# Altium footprint library RINALDOPCBLIB.PcbLib: 3 footprints
Each footprint in its own frame and in the unit in brackets; x right, y up, seen from the top. Pads: shape width x height; smd on the part's side, far side on the other; paste and mask are expansions set on the pad; w line width, h text height; cw(c..) or ccw(c..) is an arc to the next point about the centre after c.
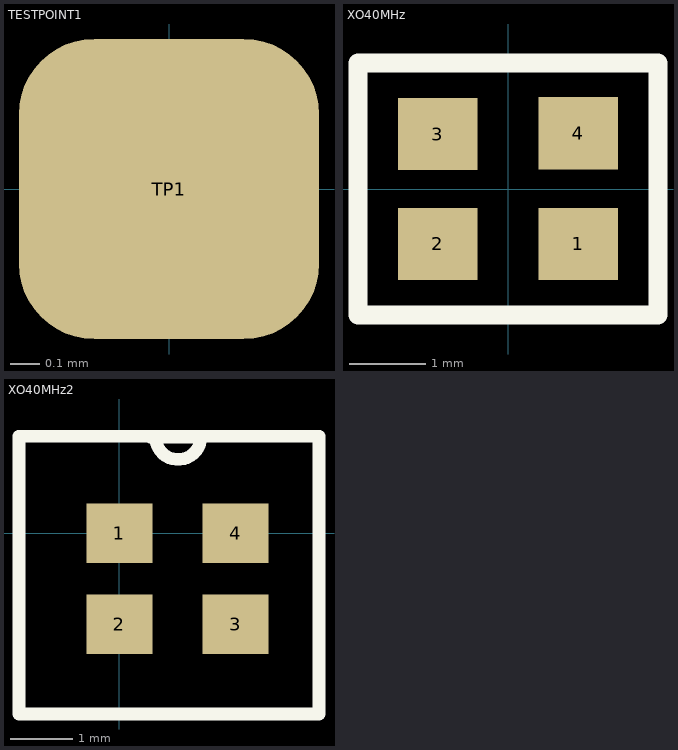
[diagram p0: the footprints below, top view; thin cyan lines are the x and y axes]

## TESTPOINT1 [mil] "TEST POINT PLUTO"
pads (1):
  rrect50% 40x40 smd: TP1(0,0)

## XO40MHz [mm]
pads (4):
  rect 1.05x0.95 smd: 1(0.925,-0.725) 2(-0.925,-0.725) 3(-0.925,0.725) 4(0.925,0.735)
Top Overlay:
  lines w0.254: -1.977,-1.66 1.977,-1.66 1.977,1.66 -1.977,1.66 -1.977,-1.66

## XO40MHz2 [mm]
pads (4):
  rect 1.05x0.95 smd: 1(0,0) 2(0,-1.45) 3(1.85,-1.45) 4(1.85,0)
Top Overlay:
  lines w0.2: 0.49,1.53 1.287,1.53 ; 0.572,1.537 ccw(c0.935,1.537) 1.297,1.537 ; -1.6,-2.88 -1.6,1.544 3.18,1.544 3.18,-2.88 0.49,-2.88 -1.6,-2.88